# Altium footprint library PCB_Connector.PcbLib: 13 footprints
Each footprint in its own frame and in the unit in brackets; x right, y up, seen from the top. Pads: shape width x height; smd on the part's side, far side on the other; paste and mask are expansions set on the pad; w line width, h text height; cw(c..) or ccw(c..) is an arc to the next point about the centre after c.
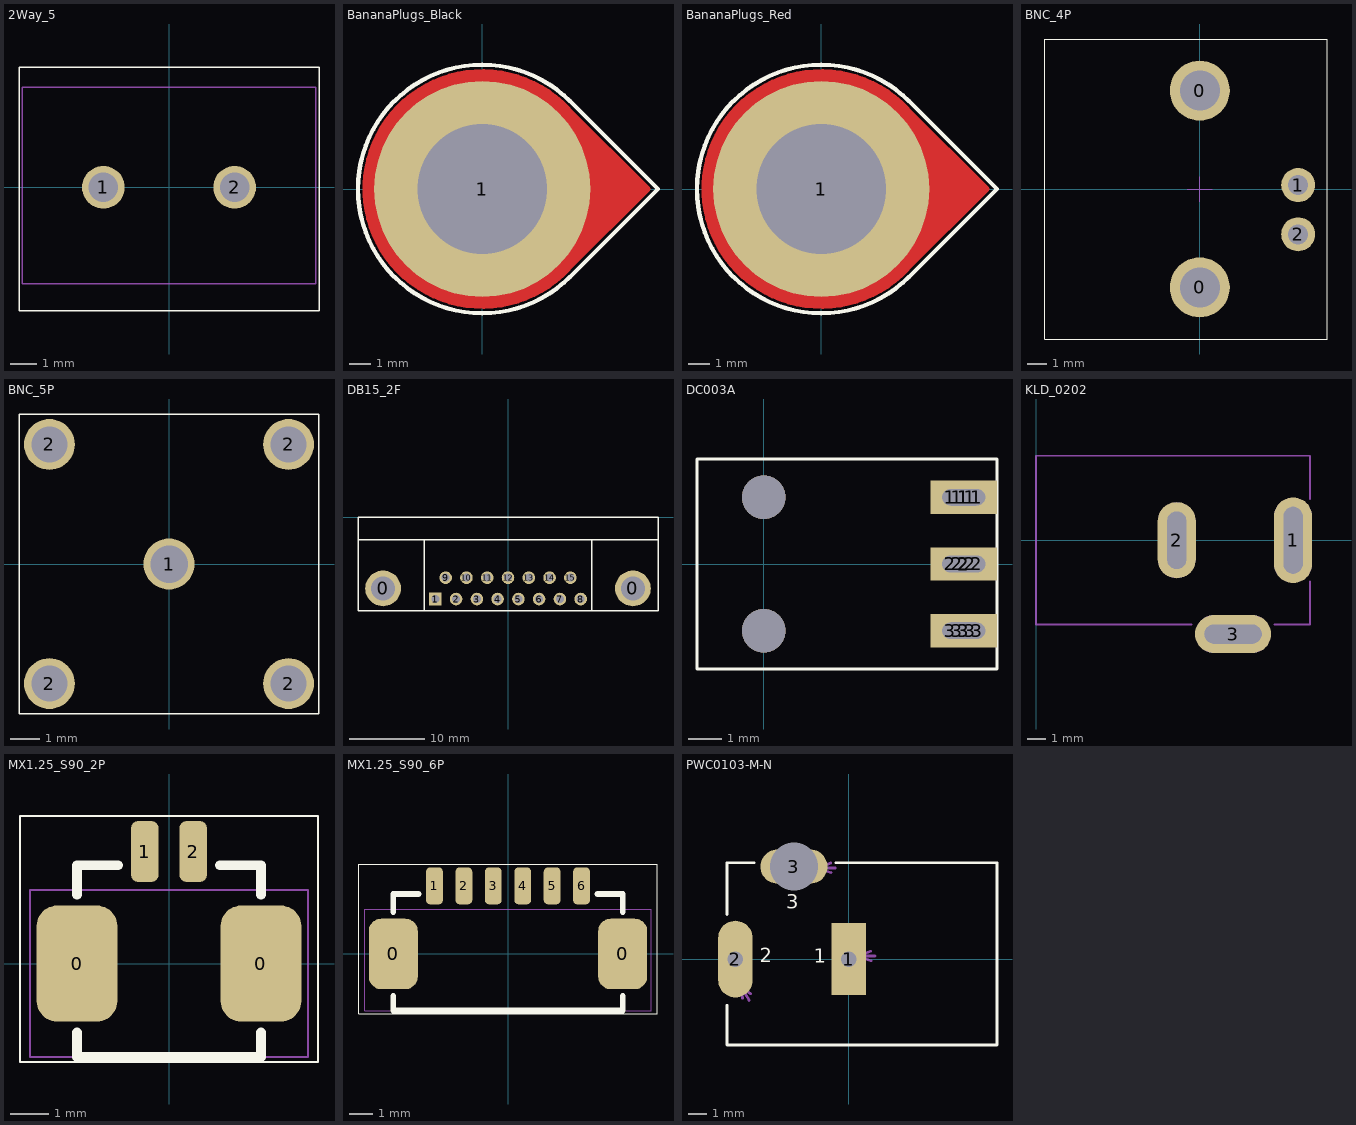
[diagram p0: the footprints below, top view; thin cyan lines are the x and y axes]

## 2Way_5 [mil]
height 501.97
pads (2):
  round 64 hole 44: 1(-98.43,0) 2(98.43,0)
Top Overlay:
  lines w2: -225,-185 225,-185 225,180 -225,180 -225,-185
Mechanical 13:
  lines w2: -220,-145 -220,150 220,150 220,-145 -220,-145
3D body "38261.stp": height 590.55, standoff -137.8, extent -209.65,-190 212.8,184.02

## BananaPlugs_Black [mil]
pads (1):
  round 400 hole 240: 1(0,0)
Top Layer:
  region: 158.64,-146.59 148.87,-157.16 126.7,-175.53 102.29,-190.79 76.06,-202.68 48.5,-210.98 20.07,-215.55 -8.71,-216.3 -37.33,-213.24 -65.3,-206.4 -92.11,-195.9 -117.29,-181.95 -140.4,-164.78 -161.02,-144.69 -178.8,-122.04 -193.41,-97.23 -204.61,-70.71 -212.18,-42.93 -216,-14.4 -216,14.4 -212.18,42.93 -204.61,70.71 -193.41,97.23 -178.8,122.04 -161.02,144.69 -140.4,164.78 -117.29,181.95 -92.11,195.9 -65.3,206.4 -37.33,213.24 -8.71,216.3 20.07,215.55 48.5,210.98 76.06,202.68 102.29,190.79 126.7,175.53 148.87,157.16 158.64,146.59 159,146 305,0
  lines w12: 158.64,-146.59 cw(c0,0) 158.64,146.59 ; 159,-146 305,0 159,146
Bottom Layer:
  region: 158.64,-146.59 148.87,-157.16 126.7,-175.53 102.29,-190.79 76.07,-202.68 48.5,-210.98 20.07,-215.55 -8.71,-216.3 -37.33,-213.24 -65.3,-206.4 -92.11,-195.9 -117.29,-181.95 -140.4,-164.78 -161.02,-144.69 -178.8,-122.04 -193.41,-97.23 -204.61,-70.71 -212.18,-42.93 -216,-14.4 -216,14.4 -212.18,42.93 -204.61,70.71 -193.41,97.23 -178.8,122.04 -161.02,144.69 -140.4,164.78 -117.29,181.95 -92.11,195.9 -65.3,206.4 -37.33,213.24 -8.71,216.3 20.07,215.55 48.5,210.98 76.07,202.68 102.29,190.79 126.7,175.53 148.87,157.16 158.64,146.59 159,146 305,0
Top Overlay:
  lines w8: 162.63,-162.63 cw(c0,0) 162.63,162.63 325.27,0 162.63,-162.63
Bottom Overlay:
  lines w8: 162.63,-162.63 cw(c0,0) 162.63,162.63 325.27,0 162.63,-162.63
Top Solder:
  region: 158.64,-146.59 148.87,-157.16 126.7,-175.53 102.29,-190.79 76.07,-202.68 48.5,-210.98 20.07,-215.55 -8.71,-216.3 -37.33,-213.24 -65.3,-206.4 -92.11,-195.9 -117.29,-181.95 -140.4,-164.78 -161.02,-144.69 -178.8,-122.04 -193.41,-97.23 -204.61,-70.71 -212.18,-42.93 -216,-14.4 -216,14.4 -212.18,42.93 -204.61,70.71 -193.41,97.23 -178.8,122.04 -161.02,144.69 -140.4,164.78 -117.29,181.95 -92.11,195.9 -65.3,206.4 -37.33,213.24 -8.71,216.3 20.07,215.55 48.5,210.98 76.07,202.68 102.29,190.79 126.7,175.53 148.87,157.16 158.64,146.59 159,146 305,0
Bottom Solder:
  region: 158.64,-146.59 148.87,-157.16 126.7,-175.53 102.29,-190.79 76.07,-202.68 48.5,-210.98 20.07,-215.55 -8.71,-216.3 -37.33,-213.24 -65.3,-206.4 -92.11,-195.9 -117.29,-181.95 -140.4,-164.78 -161.02,-144.69 -178.8,-122.04 -193.41,-97.23 -204.61,-70.71 -212.18,-42.93 -216,-14.4 -216,14.4 -212.18,42.93 -204.61,70.71 -193.41,97.23 -178.8,122.04 -161.02,144.69 -140.4,164.78 -117.29,181.95 -92.11,195.9 -65.3,206.4 -37.33,213.24 -8.71,216.3 20.07,215.55 48.5,210.98 76.07,202.68 102.29,190.79 126.7,175.53 148.87,157.16 158.64,146.59 159,146 305,0
3D body "User Library-ST-351B V1 - BLACK.STEP": height 326.77, standoff -303.18, extent -222.44,-222.19 456.69,222.19

## BananaPlugs_Red [mil]
pads (1):
  round 400 hole 240: 1(0,0)
Top Layer:
  region: 158.64,-146.59 148.87,-157.16 126.7,-175.53 102.29,-190.79 76.06,-202.68 48.5,-210.98 20.07,-215.55 -8.71,-216.3 -37.33,-213.24 -65.3,-206.4 -92.11,-195.9 -117.29,-181.95 -140.4,-164.78 -161.02,-144.69 -178.8,-122.04 -193.41,-97.23 -204.61,-70.71 -212.18,-42.93 -216,-14.4 -216,14.4 -212.18,42.93 -204.61,70.71 -193.41,97.23 -178.8,122.04 -161.02,144.69 -140.4,164.78 -117.29,181.95 -92.11,195.9 -65.3,206.4 -37.33,213.24 -8.71,216.3 20.07,215.55 48.5,210.98 76.06,202.68 102.29,190.79 126.7,175.53 148.87,157.16 158.64,146.59 159,146 305,0
  lines w12: 158.64,-146.59 cw(c0,0) 158.64,146.59 ; 159,-146 305,0 159,146
Bottom Layer:
  region: 158.64,-146.59 148.87,-157.16 126.7,-175.53 102.29,-190.79 76.07,-202.68 48.5,-210.98 20.07,-215.55 -8.71,-216.3 -37.33,-213.24 -65.3,-206.4 -92.11,-195.9 -117.29,-181.95 -140.4,-164.78 -161.02,-144.69 -178.8,-122.04 -193.41,-97.23 -204.61,-70.71 -212.18,-42.93 -216,-14.4 -216,14.4 -212.18,42.93 -204.61,70.71 -193.41,97.23 -178.8,122.04 -161.02,144.69 -140.4,164.78 -117.29,181.95 -92.11,195.9 -65.3,206.4 -37.33,213.24 -8.71,216.3 20.07,215.55 48.5,210.98 76.07,202.68 102.29,190.79 126.7,175.53 148.87,157.16 158.64,146.59 159,146 305,0
Top Overlay:
  lines w8: 162.63,-162.63 cw(c0,0) 162.63,162.63 325.27,0 162.63,-162.63
Bottom Overlay:
  lines w8: 162.63,-162.63 cw(c0,0) 162.63,162.63 325.27,0 162.63,-162.63
Top Solder:
  region: 158.64,-146.59 148.87,-157.16 126.7,-175.53 102.29,-190.79 76.07,-202.68 48.5,-210.98 20.07,-215.55 -8.71,-216.3 -37.33,-213.24 -65.3,-206.4 -92.11,-195.9 -117.29,-181.95 -140.4,-164.78 -161.02,-144.69 -178.8,-122.04 -193.41,-97.23 -204.61,-70.71 -212.18,-42.93 -216,-14.4 -216,14.4 -212.18,42.93 -204.61,70.71 -193.41,97.23 -178.8,122.04 -161.02,144.69 -140.4,164.78 -117.29,181.95 -92.11,195.9 -65.3,206.4 -37.33,213.24 -8.71,216.3 20.07,215.55 48.5,210.98 76.07,202.68 102.29,190.79 126.7,175.53 148.87,157.16 158.64,146.59 159,146 305,0
Bottom Solder:
  region: 158.64,-146.59 148.87,-157.16 126.7,-175.53 102.29,-190.79 76.07,-202.68 48.5,-210.98 20.07,-215.55 -8.71,-216.3 -37.33,-213.24 -65.3,-206.4 -92.11,-195.9 -117.29,-181.95 -140.4,-164.78 -161.02,-144.69 -178.8,-122.04 -193.41,-97.23 -204.61,-70.71 -212.18,-42.93 -216,-14.4 -216,14.4 -212.18,42.93 -204.61,70.71 -193.41,97.23 -178.8,122.04 -161.02,144.69 -140.4,164.78 -117.29,181.95 -92.11,195.9 -65.3,206.4 -37.33,213.24 -8.71,216.3 20.07,215.55 48.5,210.98 76.07,202.68 102.29,190.79 126.7,175.53 148.87,157.16 158.64,146.59 159,146 305,0
3D body "User Library-ST-351A V1 - RED.STEP": height 326.77, standoff -303.18, extent -222.45,-222.2 456.69,222.18

## BNC_4P [mil]
pads (4):
  round 120 hole 80: 0(0,-196.85) 0(0,196.85)
  round 68 hole 40: 1(196.85,7.87) 2(196.85,-90.55)
Top Overlay:
  lines w2: -310,-300 255,-300 255,300 -310,300 -310,-300
Mechanical 13:
  lines w2: -25,0 25,0 ; 0,-25 0,25
3D body "User Library-BNC-144.STEP": height 519.2, standoff -161.8, extent -1124.99,-290.5 250.01,290.5

## BNC_5P [mil]
pads (5):
  round 68 hole 50: 1(0,0)
  round 68 hole 48: 2(-159.45,-159.45) 2(-159.45,159.45) 2(159.45,-159.45) 2(159.45,159.45)
Top Overlay:
  lines w2: -200,-200 -200,200 200,200 200,-200 -200,-200
3D body "User Library-BNC84CT-9000.STEP": height 600.39, standoff -177.17, extent -216.53,-216.53 1043.31,216.54

## DB15_2F [mil]
height 501.97
pads (17):
  round 188 hole 125: 0(-655.91,-374.02) 0(655.91,-374.02)
  rect 66x66 hole 42: 1(-381.69,-429.92)
  round 66 hole 42: 2(-272.64,-429.92) 3(-163.58,-429.92) 4(-54.53,-429.92) 5(54.53,-429.92) 6(163.58,-429.92) 7(272.64,-429.92) 8(381.69,-429.92) 9(-327.17,-318.11) 10(-218.11,-318.11) 11(-109.05,-318.11) 12(0,-318.11) 13(109.06,-318.11) 14(218.11,-318.11) 15(327.17,-318.11)
Top Overlay:
  lines w7.87: -787.4,-118.11 787.4,-118.11 ; -438.58,-492.13 -438.58,-118.11 ; 438.58,-492.13 438.58,-118.11 ; -787.4,-492.13 -787.4,0 787.4,0 787.4,-492.13 -787.4,-492.13
3D body "SW3DPS-DB15RA_F-DEFAULT.STEP": height 494.09, standoff -137.8, extent -779.92,-500 779.92,224.41

## DB15_3F [mil]
height 501.97
3D body "SW3dPS-SLIM D-SUB RIGHT ANGLE PCB MOUNT.STEP": height 246.06, standoff -279.2, extent 988.71,-2071.33 2201.3,-1541.02
3D body "User Library-17EBH-015P.STEP": height 494.09, standoff -141.73, extent -386.49,-2213.58 826.5,-1339

## DC003A [mm]
height 5.5
pads (18):
  round 1 hole 0.5: 1(5.6,2) 1(5.8,2) 1(6,2) 1(6.2,2) 1(6.4,2) 2(5.6,0) 2(5.8,0) 2(6,0) 2(6.2,0) 2(6.4,0) 3(5.6,-2) 3(5.8,-2) 3(6,-2) 3(6.2,-2) 3(6.4,-2)
  rect 2x1 hole 0.5 slot 1.2 at 0 deg: 1(6,2) 2(6,0) 3(6,-2)
via 0,2 diameter 1.3 hole 1.3
via 0,-2 diameter 1.3 hole 1.3
Top Overlay:
  lines w0.1: -2,-3.15 -2,3.15 7,3.15 7,-3.15 -2,-3.15
3D body "pj-036ch.stp": height 5, standoff -3, extent -2,-3 7,3

## KLD_0202 [mil]
pads (3):
  oval 80x180 hole 40 slot 140 at 90 deg: 1(539.37,0)
  oval 80x160 hole 40 slot 120 at 90 deg: 2(295.28,0)
  oval 160x80 hole 40 slot 120 at 0 deg: 3(413.39,-196.85)
Mechanical 2:
  lines w79.37: 295.28,-39.37 295.28,39.37 ; 374.02,-196.85 452.76,-196.85 ; 539.37,-49.21 539.37,49.21
Mechanical 13:
  lines w4: 326.77,-177.17 0,-177.17 0,177.17 574.8,177.17 574.8,86.61 ; 500,-177.17 574.8,-177.17 574.8,-86.61
3D body "User Library-K375A -PCM DC Power Jack 2mm Pin.STEP": height 433.07, standoff -200.79, extent -9.25,-212.75 561.62,173.07

## MX1.25_S90_2P [mil]
pads (4):
  rrect50% 82x118 smd: 0(-93.58,0) 0(93.58,0)
  rrect50% 28x62 smd: 1(-24.61,114) 2(24.61,114)
Top Overlay:
  lines w2: -151.58,-100 -151.58,150 151.58,150 151.58,-100 -151.58,-100
  lines w10: -93.58,-70 -93.58,-95 93.58,-95 93.58,-70 ; -93.58,70 -93.58,100 -51.58,100 ; 51.58,100 93.58,100 93.58,70
Mechanical 13:
  lines w2: -141.58,-95 -141.58,75 141.58,75 141.58,-95 -141.58,-95
3D body "47641.stp": height 98.43, standoff -23.62, extent -146.65,-128.78 146.65,135

## MX1.25_S90_6P [mil]
pads (8):
  rrect50% 82x118 smd: 0(-192,0) 0(192,0)
  rrect50% 28x62 smd: 1(-123.03,114) 2(-73.82,114) 3(-24.61,114) 4(24.61,114) 5(73.82,114) 6(123.03,114)
Top Overlay:
  lines w2: -250,-100 -250,150 250,150 250,-100 -250,-100
  lines w10: -192,-70 -192,-95 192,-95 192,-70 ; -192,70 -192,100 -150,100 ; 150,100 192,100 192,70
Mechanical 13:
  lines w2: -240,-95 -240,75 240,75 240,-95 -240,-95
3D body "47654.stp": height 98.43, standoff -15.75, extent -245.08,-130 245.08,133.78

## PWC0103-M-N [mil]
pads (3):
  rect 72x150 hole 32: 1(0,0)
  oval 72x160 hole 32: 2(-236.22,0)
  oval 140x72 hole 100: 3(-114.17,192.92)
Top Overlay:
  lines w6: -253.94,-96.17 -253.94,-179.13 309.06,-179.13 309.06,200.78 -26.8,200.78 ; -253.94,92.59 -253.94,200.78 -197.03,200.78
  text "1" at -73,-8 h30
  text "2" at -184.95,-6.92 h30
  text "3" at -130,105 h30
  text "DC2026_00" at 0,0 h4
Mechanical 6:
  lines w6: -221.06,-81.55 -224.33,-58.24 ; -207.74,-85.97 -224.33,-58.24 ; -204.34,-72.3 -224.33,-58.24 ; -37.57,200.21 -63.5,190.08 ; -37.03,180.23 -63.5,190.08 ; -28.09,190.08 -63.5,190.08 ; 45.61,16.44 19.69,6.31 ; 46.15,-3.54 19.69,6.31 ; 55.09,6.31 19.69,6.31 ; -252.22,-44 ccw(c-236.22,-44) -236.22,-60 ccw(c-236.22,-44) -220.22,-44 -220.22,44 ccw(c-236.22,44) -236.22,60 ccw(c-236.22,44) -252.22,44 -252.22,-44 ; -164.17,192.92 cw(c-148.17,192.92) -148.17,208.92 -80.17,208.92 cw(c-80.17,192.92) -64.17,192.92 cw(c-80.17,192.92) -80.17,176.92 -148.17,176.92 cw(c-148.17,192.92) -164.17,192.92 ; -16,-39 ccw(c0,-39) 0,-55 ccw(c0,-39) 16,-39 16,39 ccw(c0,39) 0,55 ccw(c0,39) -16,39 -16,-39
Mechanical 10:
  text "3" at -115.77,192.92 h4
  text "1" at -1.6,0 h4
  text "2" at -237.82,0 h4

## ZBUF_3DMODEL [mil]
3D body "47631.stp": height 98.43, standoff -23.62, extent -206.62,320.19 480.39,583.97
3D body "47659.stp": height 98.43, standoff -23.62, extent -129.29,-18.78 459.29,245
3D body "47641.stp": height 98.43, standoff -23.62, extent 153.35,-345 446.65,-81.22